# Altium schematic symbol library SCH - POWER - LINEAR VREG - DIODES INC AP2210-ADJ.SchLib: 1 symbol
Pins are listed as number, name and electrical type; pins without a type are passive.

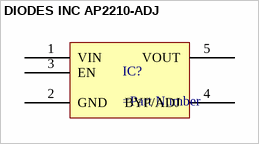
[diagram p0: symbol DIODES INC AP2210-ADJ]

## DIODES INC AP2210-ADJ
designator IC?
pins: 1 VIN, 2 GND, 3 EN, 4 BYP/ADJ, 5 VOUT